# Altium schematic symbol library AC_Line_Filter.Schlib: 1 symbol
Pins are listed as number, name and electrical type; pins without a type are passive.

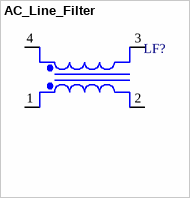
[diagram p0: symbol AC_Line_Filter]

## AC_Line_Filter
designator LF?
AC Line filter choke; Published: 8-Jun-2000; LatestRevisionDate: 17-Jul-2002; LatestRevisionNote: Re-released for DXP Platform.; PackageReference: TRF_4; Publisher: Altium Limited; PackageDescription: Transformer; 4 Leads
footprint LINEFILTER-7x8mm
pins: 1, 2, 3, 4  